# Altium integrated library Atom-N.IntLib: 31 symbols
Pins are listed as number, name and electrical type; pins without a type are passive.

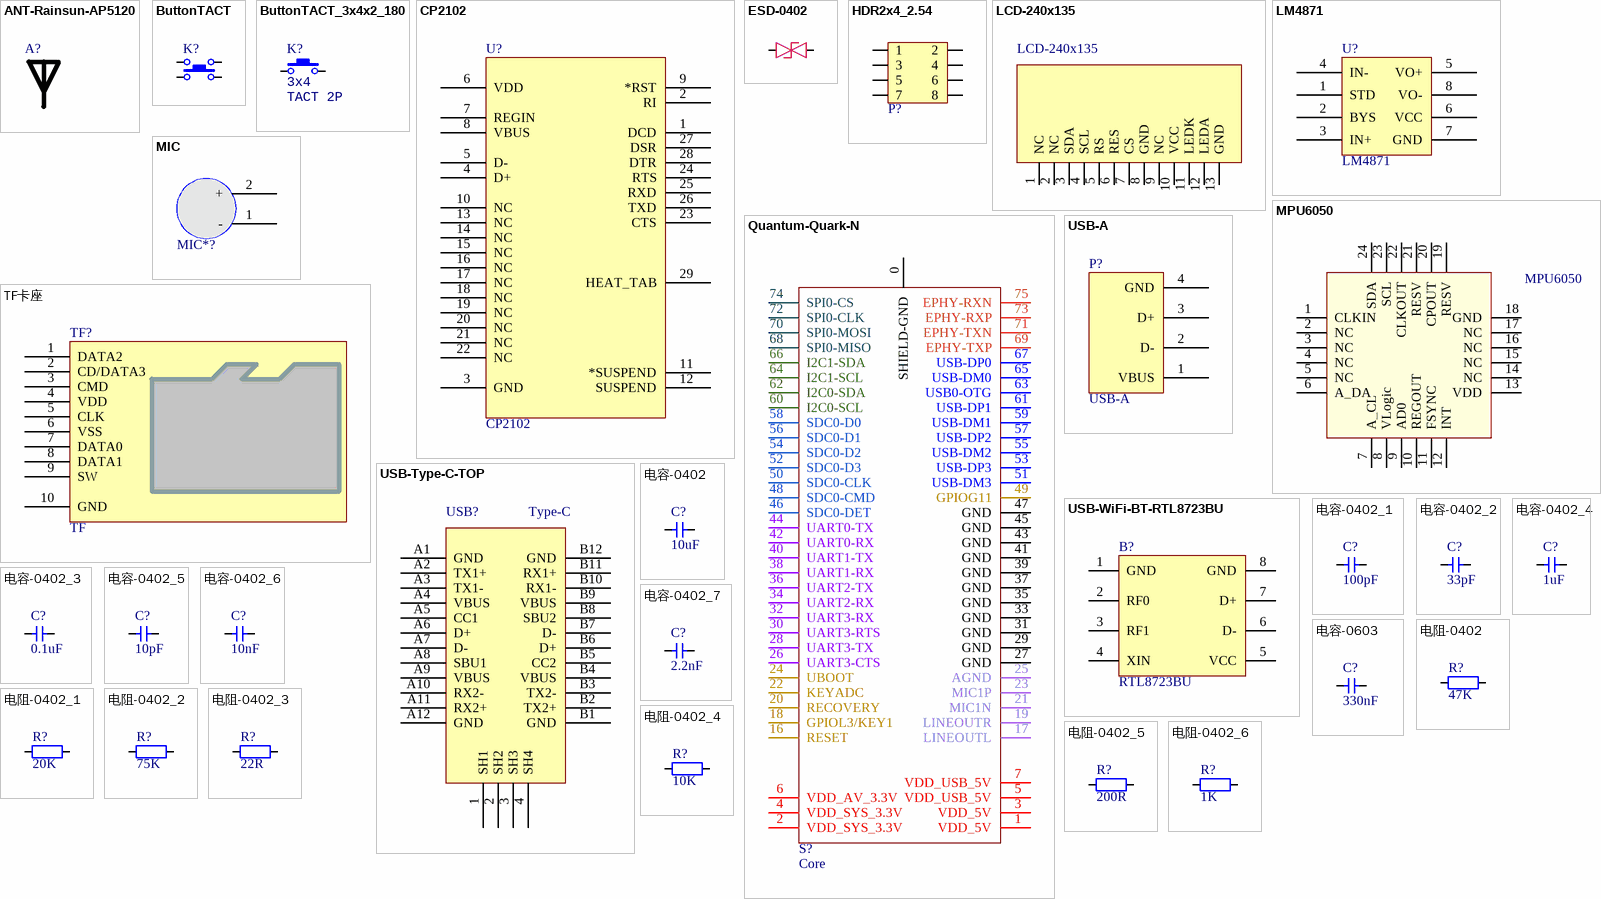
[diagram p0: symbols ANT-Rainsun-AP5120 to 电阻-0402_6]

## ANT-Rainsun-AP5120
designator A?, comment RAINSUN  (value not drawn)
footprint ANT-Rainsun-AN5120 (选择焊盘)
pins: 1

## ButtonTACT
designator K?, comment TACT 4P  (value not drawn)
Button; value: 3.4x3.5; type: TACT 4P
footprint ButtonTACT_3.5*3.55_90
footprint ButtonTACT_3.4*3.5_90
pins: 1, 2, 3, 4

## ButtonTACT_3x4x2_180
designator K?, comment value 3x4  (hidden comment: TACT 2P)
Button; type: TACT 2P
footprint ButtonTACT_3x4x2_180
footprint ButtonTACT_3x4x2_180H
pins: 1, 2

## CP2102
designator U?
USB转TTL; PART DESC: SINGLE-CHIP USB TO UART BRIDGE, QFN28, RoHS.; MFG #1: SILICON LABS; PART NUMBER: CP2102; Value: Value; RefDes: RefDes; Type: DEV
footprint QFN-28
pins: 1 DCD, 2 RI, 3 GND, 4 D+, 5 D-, 6 VDD, 7 REGIN, 8 VBUS, 9 *RST, 10 NC, 11 *SUSPEND, 12 SUSPEND, 13 NC, 14 NC, 15 NC, 16 NC, 17 NC, 18 NC, 19 NC, 20 NC, 21 NC, 22 NC, 23 CTS, 24 RTS, 25 RXD, 26 TXD, 27 DSR, 28 DTR, 29 HEAT_TAB

## ESD-0402
designator ESD-?  (value not drawn)
ESD
footprint ESD-0402
pins: 1, 2

## HDR2x4_2.54
designator P?  (value not drawn)
Header
footprint HDR2X4_2.54_90
footprint HDR2X4_2.54_90F (Footprint not found)
footprint HDR2X4_2.54_180 (Footprint not found)
footprint HDR2X4_2.54_180F (Footprint not found)
footprint HDR2X4_2.54_180H
footprint HDR2X4_2.0_180H
pins: 1, 2, 3, 4, 5, 6, 7, 8

## LCD-240x135
designator 1?
显示屏
footprint LCD-240x135
pins: 1 NC, 2 NC, 3 SDA, 4 SCL, 5 RS, 6 RES, 7 CS, 8 GND, 9 NC, 10 VCC, 11 LEDK, 12 LEDA, 13 GND

## LM4871
designator U?
footprint SO-8
footprint MSOP-8
pins: 1 STD, 2 BYS, 3 IN+, 4 IN-, 5 VO+, 6 VCC, 7 GND, 8 VO-

## MIC
designator MIC*?, comment MIC*  (value not drawn)
footprint MIC
footprint MIC-0416
footprint MIC-SMT
pins: 1 -, 2 +

## MPU6050
designator U?
六轴传感器
footprint QFN-24 (QFN, 24-Leads, Body 4.1x4.1mm (max), Pitch 0.50mm, IPC Low Density)
pins: 1 CLKIN, 2 NC, 3 NC, 4 NC, 5 NC, 6 A_DA, 7 A_CL, 8 VLogic, 9 AD0, 10 REGOUT, 11 FSYNC, 12 INT, 13 VDD, 14 NC, 15 NC, 16 NC, 17 NC, 18 GND, 19 RESV, 20 CPOUT, 21 RESV, 22 CLKOUT, 23 SCL, 24 SDA

## Quantum-Quark-N
designator S?, comment Core
footprint QUANTUM-QUARK-N (NGFF_M_2)
pins: 0 SHIELD-GND, 1 VDD_5V, 2 VDD_SYS_3.3V, 3 VDD_5V, 4 VDD_SYS_3.3V, 5 VDD_USB_5V, 6 VDD_AV_3.3V, 7 VDD_USB_5V, 16 RESET, 17 LINEOUTL, 18 GPIOL3/KEY1, 19 LINEOUTR, 20 RECOVERY, 21 MIC1N, 22 KEYADC, 23 MIC1P, 24 UBOOT, 25 AGND, 26 UART3-CTS, 27 GND, 28 UART3-TX, 29 GND, 30 UART3-RTS, 31 GND, 32 UART3-RX, 33 GND, 34 UART2-RX, 35 GND, 36 UART2-TX, 37 GND, 38 UART1-RX, 39 GND, 40 UART1-TX, 41 GND, 42 UART0-RX, 43 GND, 44 UART0-TX, 45 GND, 46 SDC0-DET, 47 GND, 48 SDC0-CMD, 49 GPIOG11, 50 SDC0-CLK, 51 USB-DM3, 52 SDC0-D3, 53 USB-DP3, 54 SDC0-D2, 55 USB-DM2, 56 SDC0-D1, 57 USB-DP2, 58 SDC0-D0, 59 USB-DM1, 60 I2C0-SCL, 61 USB-DP1, 62 I2C0-SDA, 63 USB0-OTG, 64 I2C1-SCL, 65 USB-DM0, 66 I2C1-SDA, 67 USB-DP0, 68 SPI0-MISO, 69 EPHY-TXP, 70 SPI0-MOSI, 71 EPHY-TXN, 72 SPI0-CLK, 73 EPHY-RXP, 74 SPI0-CS, 75 EPHY-RXN

## TF卡座
designator TF?, comment TF
8脚自弹
footprint TF-SOCKET
footprint TF-SOCKET - no hole
footprint TF-SOCKET - short
footprint TF-Card-Amphenol
footprint TF-Card-Amphenol with TF
pins: 1 DATA2, 2 CD/DATA3, 3 CMD, 4 VDD, 5 CLK, 6 VSS, 7 DATA0, 8 DATA1, 9 SW, 10 GND

## USB-A
designator P?
footprint USB-Short
pins: 1 VBUS, 2 D-, 3 D+, 4 GND

## USB-Type-C-TOP
designator USB?, comment Type-C
footprint Type-C-TOP
pins: 1 SH1, 2 SH2, 3 SH3, 4 SH4, A1 GND, A2 TX1+, A3 TX1-, A4 VBUS, A5 CC1, A6 D+, A7 D-, A8 SBU1, A9 VBUS, A10 RX2-, A11 RX2+, A12 GND, B1 GND, B2 TX2+, B3 TX2-, B4 VBUS, B5 CC2, B6 D+, B7 D-, B8 SBU2, B9 VBUS, B10 RX1-, B11 RX1+, B12 GND

## USB-WiFi-BT-RTL8723BU
designator B?, comment RTL8723BU
footprint USB-WiFI-BT-RTL8723BU
pins: 1 GND, 2 RF0, 3 RF1, 4 XIN, 5 VCC, 6 D-, 7 D+, 8 GND

## 电容-0402
designator C?, comment 10uF
Capacitor; Value: 0.1u
footprint CAP_0402
pins: 1, 2

## 电容-0402_1
designator C?, comment 100pF
Capacitor; Value: 0.1u
footprint CAP_0402
pins: 1, 2

## 电容-0402_2
designator C?, comment 33pF
Capacitor; Value: 0.1u
footprint CAP_0402
pins: 1, 2

## 电容-0402_3
designator C?, comment 0.1uF
Capacitor; Value: 0.1u
footprint CAP_0402
pins: 1, 2

## 电容-0402_4
designator C?, comment 1uF
Capacitor; Value: 0.1u
footprint CAP_0402
pins: 1, 2

## 电容-0402_5
designator C?, comment 10pF
Capacitor; Value: 0.1u
footprint CAP_0402
pins: 1, 2

## 电容-0402_6
designator C?, comment 10nF
Capacitor; Value: 0.1u
footprint CAP_0402
pins: 1, 2

## 电容-0402_7
designator C?, comment 2.2nF
Capacitor; Value: 0.1u
footprint CAP_0402
pins: 1, 2

## 电容-0603
designator C?, comment 330nF
Capacitor; Value: 0.1u
footprint 0603-CAP
pins: 1, 2

## 电阻-0402
designator R?, comment 47K
Resistor; Value: 22R
footprint RES_0402
pins: 1, 2

## 电阻-0402_1
designator R?, comment 20K
Resistor; Value: 22R
footprint RES_0402
pins: 1, 2

## 电阻-0402_2
designator R?, comment 75K
Resistor; Value: 22R
footprint RES_0402
pins: 1, 2

## 电阻-0402_3
designator R?, comment 22R
Resistor; Value: 22R
footprint RES_0402
pins: 1, 2

## 电阻-0402_4
designator R?, comment 10K
Resistor; Value: 22R
footprint RES_0402
pins: 1, 2

## 电阻-0402_5
designator R?, comment 200R
Resistor; Value: 22R
footprint RES_0402
pins: 1, 2

## 电阻-0402_6
designator R?, comment 1K
Resistor; Value: 22R
footprint RES_0402
pins: 1, 2